# EAGLE library part EB2-4N3-NEC (library IBe-9102-lib)
RELAY 2 x switch, 0.3 A/125 V AC, 1 A/30 V DC, Omron
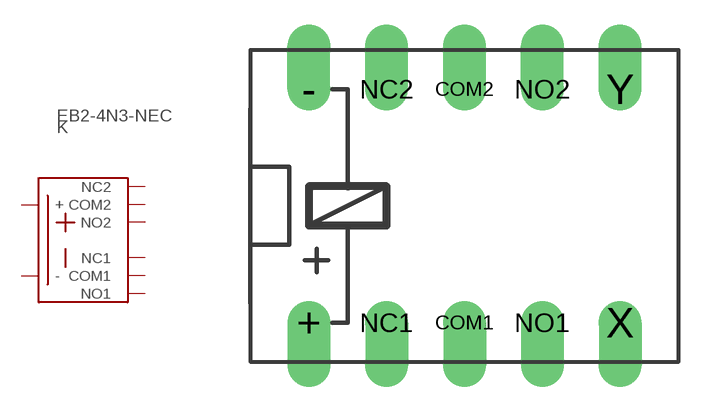
[diagram p6: symbol with the pads of EB2-A; footprint EB2-A]

Designator prefix K

## EB2-4N3-NEC (OC_FARNELL: unknown; OC_NEWARK: unknown)  [EB2-A]
+  +
-  -
COM1  COM1
COM2  COM2
NC1  NC1
NC2  NC2
NO1  NO1
NO2  NO2

## Footprint EB2-A (pad centres in mm)
RELAY 2 x switch, 0.3 A/125 V AC, 1 A/30 V DC, Omron
drill 0.9 offset: + -3.175,-3.81; - -3.175,3.81; COM1 1.905,-3.81; COM2 1.905,3.81; NC1 -0.635,-3.81; NC2 -0.635,3.81; NO1 4.445,-3.81; NO2 4.445,3.81; X 6.985,-3.81; Y 6.985,3.81